# Altium footprint library DE-180824.PcbLib: 128 footprints (part 1 of 8)
Each footprint in its own frame and in the unit in brackets; x right, y up, seen from the top. Pads: shape width x height; smd on the part's side, far side on the other; paste and mask are expansions set on the pad; w line width, h text height; cw(c..) or ccw(c..) is an arc to the next point about the centre after c.
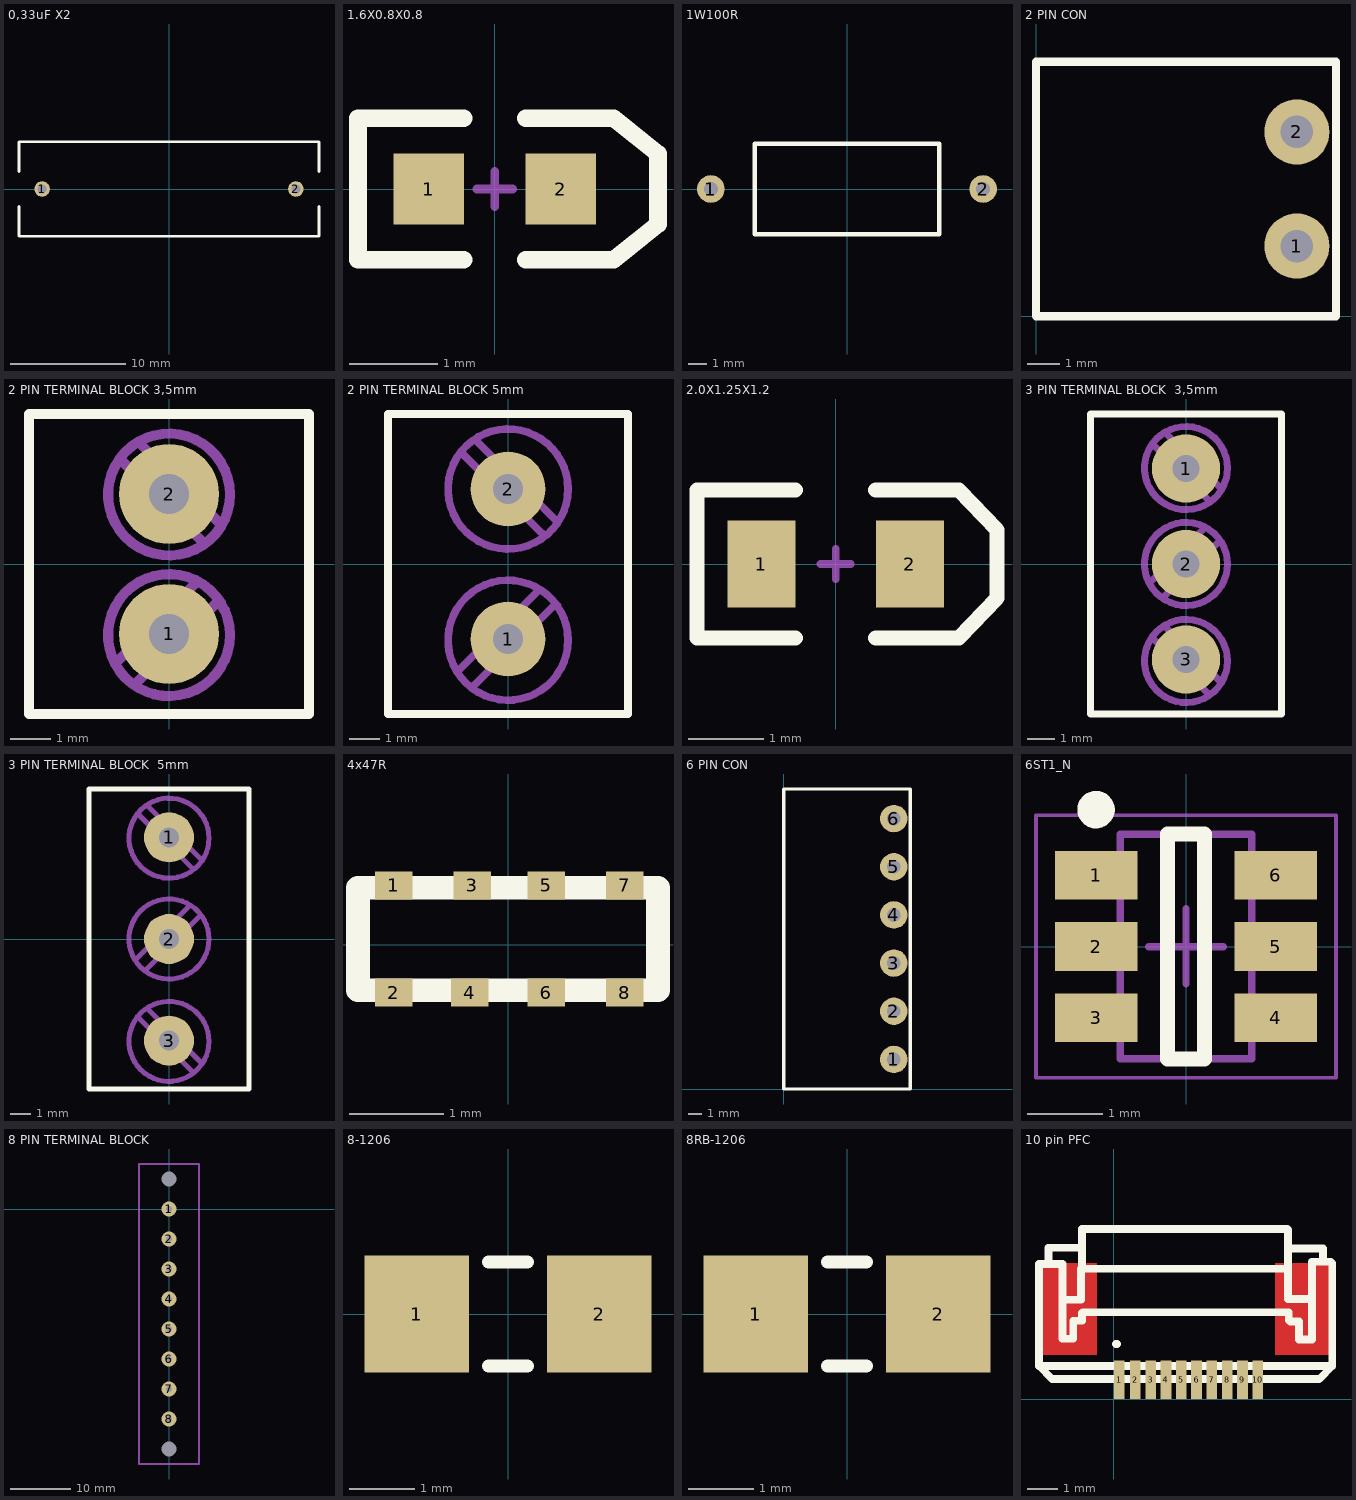
[diagram p0: the footprints below, top view; thin cyan lines are the x and y axes]

## 0,33uF X2 [mm] "Capacitor, Ceramic, Thru-Hole, Dipped Radial; Body 11.5 x 3.6 mm (WxT) Pin Spacing 10.16 mm (typ)"
height 16.5
pads (2):
  round 1.35 hole 0.8: 1(-11,0) 2(11,0)
Top Overlay:
  lines w0.2: -13,-4.1 13,-4.1 ; -13,4.1 13,4.1
  lines w0.254: -13,-4.064 -13,-1.524 ; -13,1.524 -13,4.064 ; 13,-4.064 13,-1.524 ; 13,1.524 13,4.064
3D body: height 16, standoff 0, extent -12.954,-4.064 12.954,4.064

## 1.6X0.8X0.8 [mm] "SM LED; 2 Flat Leads"
pads (2):
  rect 0.8x0.8 smd: 1(-0.75,0) 2(0.75,0)
Top Overlay:
  lines w0.2: -0.35,-0.8 -1.55,-0.8 -1.55,0.8 -0.35,0.8 ; 0.35,-0.8 1.35,-0.8 1.85,-0.4 1.85,0.4 1.35,0.8 0.35,0.8
Mechanical 1:
  lines w0.1: -0.2,0 0.2,0 ; 0,-0.2 0,0.2

## 1W100R [mil] "1W 100R resistor"
height 196.85
pads (2):
  round 60 hole 30: 1(-295.28,0) 2(295.28,0)
Top Overlay:
  lines w10: -200,-98.43 -200,98.43 200,98.43 200,-98.43 -200,-98.43

## 2 PIN CON [mm] "2 Pin Pluggable PCB Connector"
height 7.25
pads (2):
  round 2 hole 1: 1(8,2.15) 2(8,5.65)
Top Overlay:
  lines w0.254: 0,0 9.2,0 9.2,7.8 0,7.8 0,0
3D body: height 7.25, standoff 0, extent 0,0 9.144,7.874

## 2 PIN TERMINAL BLOCK 3,5mm [mm] "Terminal blok 3,5mm"
height 9
pads (2):
  round 2.5 hole 1: 1(0,-1.75) 2(0,1.75)
Top Overlay:
  lines w0.254: -3.5,-3.75 -3.5,3.75 3.5,3.75 3.5,-3.75 -3.5,-3.75
Mechanical 1:
  circle w0.254: c0,1.738 r1.524
  circle w0.254: c0,-1.778 r1.524
  lines w0.254: -1.333,-2.476 0.699,-0.445 ; -1.206,2.603 0.826,0.572 ; -0.826,-2.984 1.206,-0.953 ; -0.762,3.048 1.27,1.016
3D body: height 9, standoff 0, extent -3.556,-3.81 3.556,3.81

## 2 PIN TERMINAL BLOCK 5mm [mm] "Terminal blok 5mm"
height 10
pads (2):
  round 2.5 hole 1: 1(0,-2.5) 2(0,2.5)
Top Overlay:
  lines w0.254: -4,-5 -4,5 4,5 4,-5 -4,-5
Mechanical 1:
  circle w0.254: c0,2.5 r2
  circle w0.254: c0,-2.54 r2
  lines w0.254: -1.651,-3.556 1.016,-0.889 ; -1.524,3.683 1.143,1.016 ; -1.143,-4.064 1.524,-1.397 1.651,-1.397 ; -1.079,4.127 1.651,1.397
3D body: height 10, standoff 0, extent -4.064,-5.08 4.064,5.08

## 2.0X1.25X1.2 [mm] "SM LED; 2 Flat Leads"
pads (2):
  rect 0.9x1.15 smd: 1(-0.98,0) 2(0.98,0)
Top Overlay:
  lines w0.2: -0.53,-0.975 -1.83,-0.975 -1.83,0.975 -0.53,0.975 ; 0.53,-0.975 1.63,-0.975 2.13,-0.45 2.13,0.45 1.63,0.975 0.53,0.975
Mechanical 1:
  lines w0.1: -0.2,0 0.2,0 ; 0,-0.2 0,0.2

## 3 PIN TERMINAL BLOCK  3,5mm [mm] "Terminal blok 3,5mm"
height 9
pads (3):
  round 2.5 hole 1: 1(0,3.5) 2(0,0) 3(0,-3.5)
Top Overlay:
  lines w0.254: -3.5,-5.5 3.5,-5.5 3.5,5.5 -3.5,5.5 -3.5,-5.5
Mechanical 1:
  circle w0.254: c0,0 r1.524
  circle w0.254: c0,-3.556 r1.524
  circle w0.254: c0,3.516 r1.524
  lines w0.254: -1.333,-0.699 0.699,1.333 ; -1.206,-2.73 0.826,-4.763 ; -1.206,4.381 0.826,2.349 ; -0.826,-1.206 1.206,0.826 ; -0.762,-2.286 1.27,-4.318 ; -0.635,4.699 1.27,2.794
3D body: height 9, standoff 0, extent -3.556,-5.588 3.556,5.588

## 3 PIN TERMINAL BLOCK  5mm [mm] "Terminal blok 5mm"
height 10
pads (3):
  round 2.5 hole 1: 1(0,5.08) 2(0,0) 3(0,-5.08)
Top Overlay:
  lines w0.254: -4,-7.5 -4,7.5 4,7.5 4,-7.5 -4,-7.5
Mechanical 1:
  circle w0.254: c0,5.04 r2
  circle w0.254: c0,-5.12 r2
  circle w0.254: c0,0 r2
  lines w0.254: -1.651,-1.016 1.016,1.651 ; -1.524,-3.937 1.143,-6.604 ; -1.524,6.223 1.143,3.556 ; -1.143,-1.524 1.524,1.143 ; -1.079,-3.492 1.651,-6.223 ; -1.079,6.667 1.651,3.937
3D body: height 10, standoff 0, extent -4.064,-7.62 4.064,7.62

## 4x47R [mm] "SMD RESISTOR 4 x 47R"
height 1
pads (8):
  rect 0.4x0.3 all layers, no hole: 1(-1.219,0.635) 2(-1.219,-0.508) 3(-0.381,0.635) 4(-0.406,-0.508) 5(0.406,0.635) 6(0.406,-0.508) 7(1.245,0.635) 8(1.245,-0.508)
Top Overlay:
  lines w0.254: -1.6,-0.483 1.6,-0.483 1.6,0.61 -1.6,0.61 -1.6,-0.483

## 6 PIN CON [mm] "8 Pin Pluggable Connector"
height 7.25
pads (6):
  round 2 hole 1: 1(8,2.15) 2(8,5.65) 3(8,9.15) 4(8,12.65) 5(8,16.15) 6(8,19.65)
Top Overlay:
  lines w0.254: 0,0 9.2,0 9.2,21.8 0,21.8 0,0
3D body: height 7.25, standoff 0, extent 0,0 9.144,21.844

## 6ST1_N [mm] "SOT23, 6-Leads, Body 2.9x1.6mm, Pitch 0.95mm, Lead Span 2.8mm, IPC Medium Density"
height 1.45
pads (6):
  rect 1.1x0.65 smd: 1(-1.2,0.95) 2(-1.2,0) 3(-1.2,-0.95) 4(1.2,-0.95) 5(1.2,0) 6(1.2,0.95)
Top Overlay:
  circle w0.25: c-1.2,1.825 r0.125
  lines w0.2: -0.25,-1.5 0.25,-1.5 0.25,1.5 -0.25,1.5 -0.25,-1.5
Mechanical 13:
  lines w0.1: -0.875,-1.5 -0.875,1.5 0.875,1.5 0.875,-1.5 -0.875,-1.5
Mechanical 15:
  lines w0.05: -2,-1.75 -2,1.75 2,1.75 2,-1.75 -2,-1.75
  lines w0.1: -0.5,0 0.5,0 ; 0,-0.5 0,0.5
3D body: height 1.45, standoff 0, extent -0.875,-1.5 0.875,1.5

## 8 PIN TERMINAL BLOCK [mm] "8 pin cable terminal connector"
height 16
pads (10):
  round 2.5 hole 1: 1(0,0) 2(0,-5) 3(0,-10) 4(0,-15) 5(0,-20) 6(0,-25) 7(0,-30) 8(0,-35)
  round 1 hole 2.5: vijak(0,-40) vijak(0,5)
Mechanical 1:
  lines w0.254: -5,-42.5 5,-42.5 5,7.5 -5,7.5 -5,-42.5
3D body: height 16, standoff 1, extent -5,-42.5 5,7.5

## 8-1206 [mm] "Chip Resistor; Body 3.1 x 1.6 mm (LxW typ)"
height 0.7
pads (2):
  rect 1.6x1.8 smd: 1(-1.4,0) 2(1.4,0)
Top Overlay:
  lines w0.2: -0.3,-0.8 0.3,-0.8 ; -0.3,0.8 0.3,0.8

## 8RB-1206 [mm] "Chip Resistor; Body 3.2 x 1.6 mm (LxW typ)"
height 0.7
pads (2):
  rect 1.6x1.8 smd: 1(-1.4,0) 2(1.4,0)
Top Overlay:
  lines w0.2: -0.3,-0.8 0.3,-0.8 ; -0.3,0.8 0.3,0.8

## 10 pin PFC [mm]
pads (10):
  rect 0.35x1.25 smd: 1(0.178,0.635) 2(0.703,0.635) 3(1.203,0.635) 4(1.703,0.635) 5(2.203,0.635) 6(2.703,0.635) 7(3.203,0.635) 8(3.703,0.635) 9(4.203,0.635) 10(4.703,0.635)
Top Layer:
  rectangle: 5.258,1.45 7.258,4.45
  rectangle: -2.54,1.45 -0.54,4.45
Top Overlay:
  lines w0.254: -2.134,4.572 -2.134,4.953 -1.041,4.953 ; -1.549,3.251 -1.067,3.251 -1.067,4.267 5.69,4.267 ; -1.067,4.242 -1.041,4.267 -1.041,4.953 ; 0.076,1.803 0.102,1.803 ; 5.664,5.563 -1.041,5.563 -1.041,4.953 ; 5.69,5.537 5.69,4.928 ; 6.401,3.277 5.69,3.277 5.69,4.267 ; 6.833,4.572 6.833,4.928 5.69,4.928 ; -2.438,1.092 7.137,1.092 ; -2.438,1.092 -2.007,0.66 6.706,0.66 7.137,1.092 ; -2.438,1.092 -2.438,1.118 -2.438,4.42 -1.676,4.42 -1.676,1.981 -1.321,1.981 -1.321,2.565 -1.041,2.565 -1.041,2.819 -1.016,2.845 5.715,2.845 5.715,2.591 5.766,2.54 6.045,2.54 6.045,1.956 6.477,1.956 6.477,4.496 7.087,4.496 7.137,4.445 7.137,1.092 ; 5.69,4.267 5.69,4.928